# Altium footprint library 电源接口.PcbLib: 2 footprints
Each footprint in its own frame and in the unit in brackets; x right, y up, seen from the top. Pads: shape width x height; smd on the part's side, far side on the other; paste and mask are expansions set on the pad; w line width, h text height; cw(c..) or ccw(c..) is an arc to the next point about the centre after c.
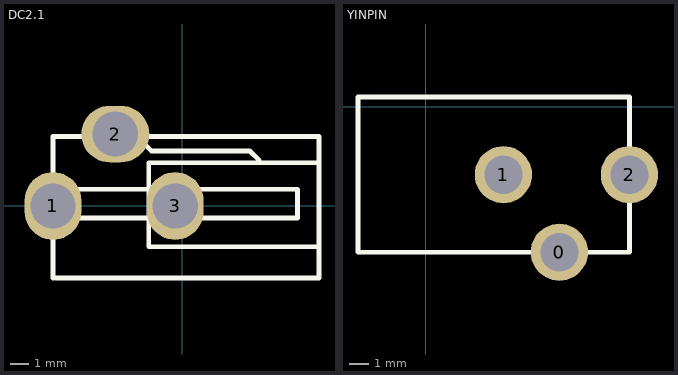
[diagram p0: the footprints below, top view; thin cyan lines are the x and y axes]

## DC2.1 [mm]
pads (3):
  oval 3x3.6 hole 2.4: 1(-6.858,0) 3(-0.381,0)
  oval 3.6x3 hole 2.4: 2(-3.556,3.81)
Top Overlay:
  lines w0.254: -6.858,-3.81 -6.858,3.683 7.239,3.683 7.239,-3.81 -6.731,-3.81 ; -6.858,-0.508 -6.731,-0.635 6.096,-0.635 6.096,0.889 -6.858,0.889 ; -2.286,3.556 -1.651,2.921 3.556,2.921 4.064,2.413 ; 7.239,-2.159 -1.778,-2.159 -1.778,2.286 7.239,2.286

## YINPIN [mm]
pads (3):
  round 3 hole 2: 0(7,-7.62) 1(4.064,-3.556) 2(10.668,-3.556)
Top Overlay:
  lines w0.254: -3.556,-7.62 -3.556,0.508 10.668,0.508 10.668,-7.62 -3.556,-7.62